# EAGLE library part STM32F051 (library stm32f051)
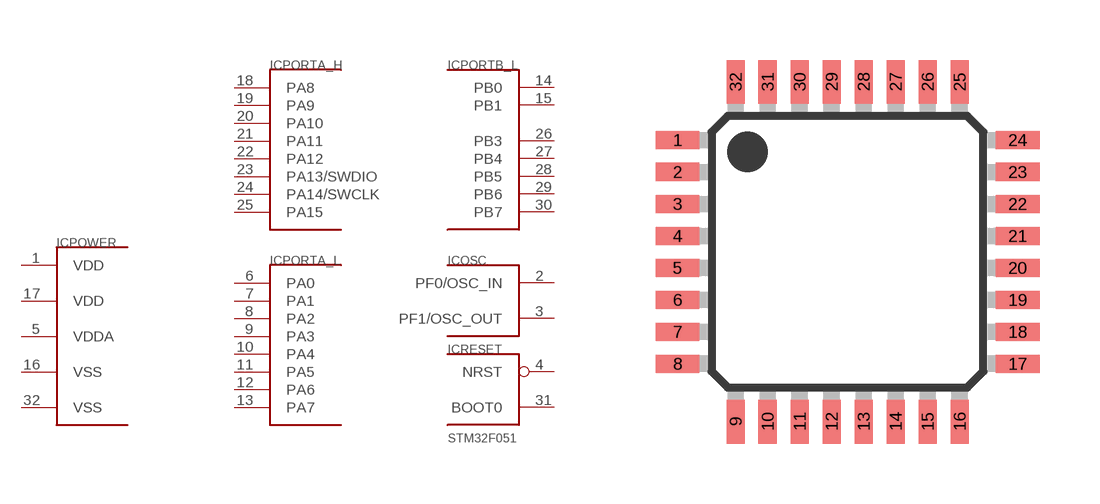
[diagram p0: symbol with the pads of LQFP32-7X7MM; footprint LQFP32-7X7MM]

Designator prefix IC; gates PORTA_H=PORT_A_H PORTA_L=PORT_A_L PORTB_L=PORT_B_L_BEZ_2 OSC=PORT_F_L RESET=BOOT_RST POWER=2VCC_2VSS_VDDA

## STM32F051K  [LQFP32-7X7MM]
1  POWER:VDD  pwr
2  OSC:PF0/OSC_IN  in
3  OSC:PF1/OSC_OUT  out
4  RESET:NRST
5  POWER:VDDA  pwr
6  PORTA_L:PA0
7  PORTA_L:PA1
8  PORTA_L:PA2
9  PORTA_L:PA3
10  PORTA_L:PA4
11  PORTA_L:PA5
12  PORTA_L:PA6
13  PORTA_L:PA7
14  PORTB_L:PB0
15  PORTB_L:PB1
16  POWER:VSS  pwr
17  POWER:VDD  pwr
18  PORTA_H:PA8
19  PORTA_H:PA9
20  PORTA_H:PA10
21  PORTA_H:PA11
22  PORTA_H:PA12
23  PORTA_H:PA13/SWDIO
24  PORTA_H:PA14/SWCLK
25  PORTA_H:PA15
26  PORTB_L:PB3
27  PORTB_L:PB4
28  PORTB_L:PB5
29  PORTB_L:PB6
30  PORTB_L:PB7
31  RESET:BOOT0  in
32  POWER:VSS  pwr

## Footprint LQFP32-7X7MM (pad centres in mm)
LQFP32 plastic low profile quad flat package, 32 leads, body 7 x 7 x 1.4 mm Source: TDA8029.pdf
smd 1.1 x 0.45: 1 -4.25,2.8; 2 -4.25,2; 3 -4.25,1.2; 4 -4.25,0.4; 5 -4.25,-0.4; 6 -4.25,-1.2; 7 -4.25,-2; 8 -4.25,-2.8; 17 4.25,-2.8; 18 4.25,-2; 19 4.25,-1.2; 20 4.25,-0.4; 21 4.25,0.4; 22 4.25,1.2; 23 4.25,2; 24 4.25,2.8
smd 0.45 x 1.1: 9 -2.8,-4.25; 10 -2,-4.25; 11 -1.2,-4.25; 12 -0.4,-4.25; 13 0.4,-4.25; 14 1.2,-4.25; 15 2,-4.25; 16 2.8,-4.25; 25 2.8,4.25; 26 2,4.25; 27 1.2,4.25; 28 0.4,4.25; 29 -0.4,4.25; 30 -1.2,4.25; 31 -2,4.25; 32 -2.8,4.25